# EAGLE library part MB90F394HPM (library micro-fujitsu)
F2MC-16LX MB90390 Series; 16-bit Proprietary Microcontroller CMOS MB90F394H/V390 ds90390-ds07-13722-1e.pdf http://www.fme.gsdc.de
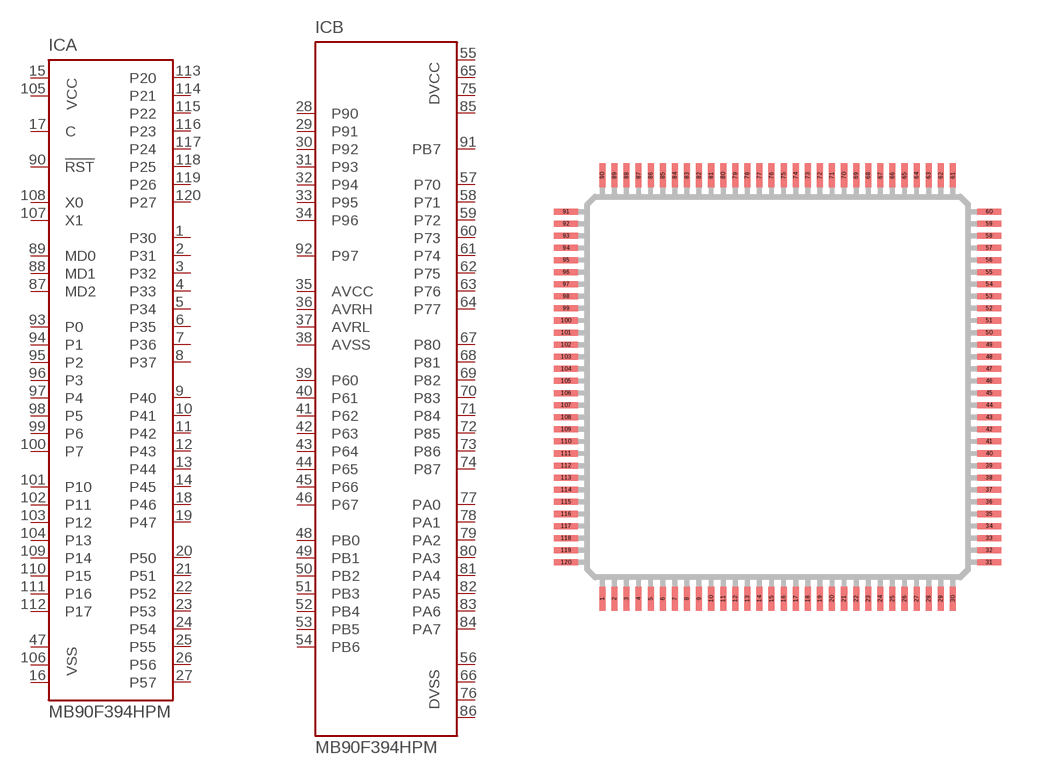
[diagram p68: symbol with the pads of LQFP120; footprint LQFP120]

Designator prefix IC; gates A=MB90390 B=MB90390-2

## MB90F394HPMT (OC_FARNELL: unknown; OC_NEWARK: unknown)  [LQFP120]
1  A:P30
2  A:P31
3  A:P32
4  A:P33
5  A:P34
6  A:P35
7  A:P36
8  A:P37
9  A:P40
10  A:P41
11  A:P42
12  A:P43
13  A:P44
14  A:P45
15  A:VCC  pwr
16  A:VSS  pwr
17  A:C  in
18  A:P46
19  A:P47
20  A:P50
21  A:P51
22  A:P52
23  A:P53
24  A:P54
25  A:P55
26  A:P56
27  A:P57
28  B:P90
29  B:P91
30  B:P92
31  B:P93
32  B:P94
33  B:P95
34  B:P96
35  B:AVCC  pwr
36  B:AVRH  in
37  B:AVRL  in
38  B:AVSS  pwr
39  B:P60
40  B:P61
41  B:P62
42  B:P63
43  B:P64
44  B:P65
45  B:P66
46  B:P67
47  A:VSS2  pwr
48  B:PB0
49  B:PB1
50  B:PB2
51  B:PB3
52  B:PB4
53  B:PB5
54  B:PB6
55  B:DVCC  pwr
56  B:DVSS  pwr
57  B:P70
58  B:P71
59  B:P72
60  B:P73
61  B:P74
62  B:P75
63  B:P76
64  B:P77
65  B:DVCC  pwr
66  B:DVSS  pwr
67  B:P80
68  B:P81
69  B:P82
70  B:P83
71  B:P84
72  B:P85
73  B:P86
74  B:P87
75  B:DVCC  pwr
76  B:DVSS  pwr
77  B:PA0
78  B:PA1
79  B:PA2
80  B:PA3
81  B:PA4
82  B:PA5
83  B:PA6
84  B:PA7
85  B:DVCC  pwr
86  B:DVSS  in
87  A:MD2  in
88  A:MD1  in
89  A:MD0  in
90  A:!RST  in
91  B:PB7
92  B:P97
93  A:P0
94  A:P1
95  A:P2
96  A:P3
97  A:P4
98  A:P5
99  A:P6
100  A:P7
101  A:P10
102  A:P11
103  A:P12
104  A:P13
105  A:VCC1  pwr
106  A:VSS1  pwr
107  A:X1  out
108  A:X0  in
109  A:P14
110  A:P15
111  A:P16
112  A:P17
113  A:P20
114  A:P21
115  A:P22
116  A:P23
117  A:P24
118  A:P25
119  A:P26
120  A:P27

## Footprint LQFP120 (pad centres in mm)
120-pin Plastic LQFP (FPT-120P-M21) ds90390-ds07-13722-1e.pdf http://www.fme.gsdc.de
smd 0.25 x 1: 1 -7.25,-8.75; 2 -6.75,-8.75; 3 -6.25,-8.75; 4 -5.75,-8.75; 5 -5.25,-8.75; 6 -4.75,-8.75; 7 -4.25,-8.75; 8 -3.75,-8.75; 9 -3.25,-8.75; 10 -2.75,-8.75; 11 -2.25,-8.75; 12 -1.75,-8.75; 13 -1.25,-8.75; 14 -0.75,-8.75; 15 -0.25,-8.75; 16 0.25,-8.75; 17 0.75,-8.75; 18 1.25,-8.75; 19 1.75,-8.75; 20 2.25,-8.75; 21 2.75,-8.75; 22 3.25,-8.75; 23 3.75,-8.75; 24 4.25,-8.75; 25 4.75,-8.75; 26 5.25,-8.75; 27 5.75,-8.75; 28 6.25,-8.75; 29 6.75,-8.75; 30 7.25,-8.75; 61 7.25,8.75; 62 6.75,8.75; 63 6.25,8.75; 64 5.75,8.75; 65 5.25,8.75; 66 4.75,8.75; 67 4.25,8.75; 68 3.75,8.75; 69 3.25,8.75; 70 2.75,8.75; 71 2.25,8.75; 72 1.75,8.75; 73 1.25,8.75; 74 0.75,8.75; 75 0.25,8.75; 76 -0.25,8.75; 77 -0.75,8.75; 78 -1.25,8.75; 79 -1.75,8.75; 80 -2.25,8.75; 81 -2.75,8.75; 82 -3.25,8.75; 83 -3.75,8.75; 84 -4.25,8.75; 85 -4.75,8.75; 86 -5.25,8.75; 87 -5.75,8.75; 88 -6.25,8.75; 89 -6.75,8.75; 90 -7.25,8.75
smd 1 x 0.25: 31 8.75,-7.25; 32 8.75,-6.75; 33 8.75,-6.25; 34 8.75,-5.75; 35 8.75,-5.25; 36 8.75,-4.75; 37 8.75,-4.25; 38 8.75,-3.75; 39 8.75,-3.25; 40 8.75,-2.75; 41 8.75,-2.25; 42 8.75,-1.75; 43 8.75,-1.25; 44 8.75,-0.75; 45 8.75,-0.25; 46 8.75,0.25; 47 8.75,0.75; 48 8.75,1.25; 49 8.75,1.75; 50 8.75,2.25; 51 8.75,2.75; 52 8.75,3.25; 53 8.75,3.75; 54 8.75,4.25; 55 8.75,4.75; 56 8.75,5.25; 57 8.75,5.75; 58 8.75,6.25; 59 8.75,6.75; 60 8.75,7.25; 91 -8.75,7.25; 92 -8.75,6.75; 93 -8.75,6.25; 94 -8.75,5.75; 95 -8.75,5.25; 96 -8.75,4.75; 97 -8.75,4.25; 98 -8.75,3.75; 99 -8.75,3.25; 100 -8.75,2.75; 101 -8.75,2.25; 102 -8.75,1.75; 103 -8.75,1.25; 104 -8.75,0.75; 105 -8.75,0.25; 106 -8.75,-0.25; 107 -8.75,-0.75; 108 -8.75,-1.25; 109 -8.75,-1.75; 110 -8.75,-2.25; 111 -8.75,-2.75; 112 -8.75,-3.25; 113 -8.75,-3.75; 114 -8.75,-4.25; 115 -8.75,-4.75; 116 -8.75,-5.25; 117 -8.75,-5.75; 118 -8.75,-6.25; 119 -8.75,-6.75; 120 -8.75,-7.25